# EAGLE library part ATSAMD5XN?A-AUT (library ATSAMDE5x)
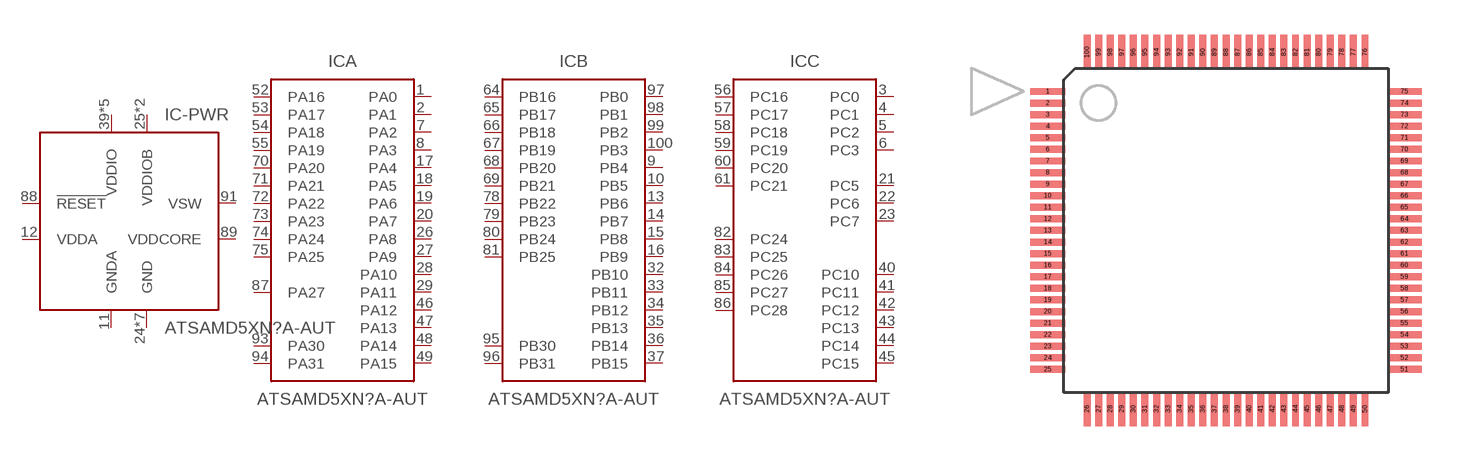
[diagram p0: symbol with the pads of TQFP100; footprint TQFP100]

Designator prefix IC; gates -PWR=ATSAMD5X-100-PWR A=ATSAMD5X-100-PORTA B=ATSAMD5X-100-PORTB C=ATSAMD5X-100-PORTC

## ATSAMD5XNAA-AUT  [TQFP100]
1  A:PA0
2  A:PA1
3  C:PC0
4  C:PC1
5  C:PC2
6  C:PC3
7  A:PA2
8  A:PA3
9  B:PB4
10  B:PB5
11  -PWR:GNDA
12  -PWR:VDDA
13  B:PB6
14  B:PB7
15  B:PB8
16  B:PB9
17  A:PA4
18  A:PA5
19  A:PA6
20  A:PA7
21  C:PC5
22  C:PC6
23  C:PC7
24  -PWR:GND
25  -PWR:VDDIOB
26  A:PA8
27  A:PA9
28  A:PA10
29  A:PA11
30  -PWR:VDDIOB
31  -PWR:GND
32  B:PB10
33  B:PB11
34  B:PB12
35  B:PB13
36  B:PB14
37  B:PB15
38  -PWR:GND
39  -PWR:VDDIO
40  C:PC10
41  C:PC11
42  C:PC12
43  C:PC13
44  C:PC14
45  C:PC15
46  A:PA12
47  A:PA13
48  A:PA14
49  A:PA15
50  -PWR:GND
51  -PWR:VDDIO
52  A:PA16
53  A:PA17
54  A:PA18
55  A:PA19
56  C:PC16
57  C:PC17
58  C:PC18
59  C:PC19
60  C:PC20
61  C:PC21
62  -PWR:GND
63  -PWR:VDDIO
64  B:PB16
65  B:PB17
66  B:PB18
67  B:PB19
68  B:PB20
69  B:PB21
70  A:PA20
71  A:PA21
72  A:PA22
73  A:PA23
74  A:PA24
75  A:PA25
76  -PWR:GND
77  -PWR:VDDIO
78  B:PB22
79  B:PB23
80  B:PB24
81  B:PB25
82  C:PC24
83  C:PC25
84  C:PC26
85  C:PC27
86  C:PC28
87  A:PA27
88  -PWR:!RESET
89  -PWR:VDDCORE
90  -PWR:GND
91  -PWR:VSW
92  -PWR:VDDIO
93  A:PA30
94  A:PA31
95  B:PB30
96  B:PB31
97  B:PB0
98  B:PB1
99  B:PB2
100  B:PB3

## Footprint TQFP100 (pad centres in mm)
smd 1.5 x 0.3: 1 -7.7,6; 2 -7.7,5.5; 3 -7.7,5; 4 -7.7,4.5; 5 -7.7,4; 6 -7.7,3.5; 7 -7.7,3; 8 -7.7,2.5; 9 -7.7,2; 10 -7.7,1.5; 11 -7.7,1; 12 -7.7,0.5; 13 -7.7,0; 14 -7.7,-0.5; 15 -7.7,-1; 16 -7.7,-1.5; 17 -7.7,-2; 18 -7.7,-2.5; 19 -7.7,-3; 20 -7.7,-3.5; 21 -7.7,-4; 22 -7.7,-4.5; 23 -7.7,-5; 24 -7.7,-5.5; 25 -7.7,-6; 51 7.7,-6; 52 7.7,-5.5; 53 7.7,-5; 54 7.7,-4.5; 55 7.7,-4; 56 7.7,-3.5; 57 7.7,-3; 58 7.7,-2.5; 59 7.7,-2; 60 7.7,-1.5; 61 7.7,-1; 62 7.7,-0.5; 63 7.7,0; 64 7.7,0.5; 65 7.7,1; 66 7.7,1.5; 67 7.7,2; 68 7.7,2.5; 69 7.7,3; 70 7.7,3.5; 71 7.7,4; 72 7.7,4.5; 73 7.7,5; 74 7.7,5.5; 75 7.7,6
smd 0.3 x 1.5: 26 -6,-7.7; 27 -5.5,-7.7; 28 -5,-7.7; 29 -4.5,-7.7; 30 -4,-7.7; 31 -3.5,-7.7; 32 -3,-7.7; 33 -2.5,-7.7; 34 -2,-7.7; 35 -1.5,-7.7; 36 -1,-7.7; 37 -0.5,-7.7; 38 0,-7.7; 39 0.5,-7.7; 40 1,-7.7; 41 1.5,-7.7; 42 2,-7.7; 43 2.5,-7.7; 44 3,-7.7; 45 3.5,-7.7; 46 4,-7.7; 47 4.5,-7.7; 48 5,-7.7; 49 5.5,-7.7; 50 6,-7.7; 76 6,7.7; 77 5.5,7.7; 78 5,7.7; 79 4.5,7.7; 80 4,7.7; 81 3.5,7.7; 82 3,7.7; 83 2.5,7.7; 84 2,7.7; 85 1.5,7.7; 86 1,7.7; 87 0.5,7.7; 88 0,7.7; 89 -0.5,7.7; 90 -1,7.7; 91 -1.5,7.7; 92 -2,7.7; 93 -2.5,7.7; 94 -3,7.7; 95 -3.5,7.7; 96 -4,7.7; 97 -4.5,7.7; 98 -5,7.7; 99 -5.5,7.7; 100 -6,7.7